# Altium schematic symbol library SCH - DRIVER - GATE - TI UCC27611.SchLib: 1 symbol
Pins are listed as number, name and electrical type; pins without a type are passive.

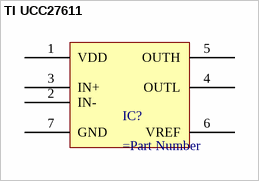
[diagram p0: symbol TI UCC27611]

## TI UCC27611
designator IC?
pins: 1 VDD, 2 IN-, 3 IN+, 4 OUTL, 5 OUTH, 6 VREF, 7 GND